# EAGLE library part ESP32-D2WD (library Labops_Lib_AH)
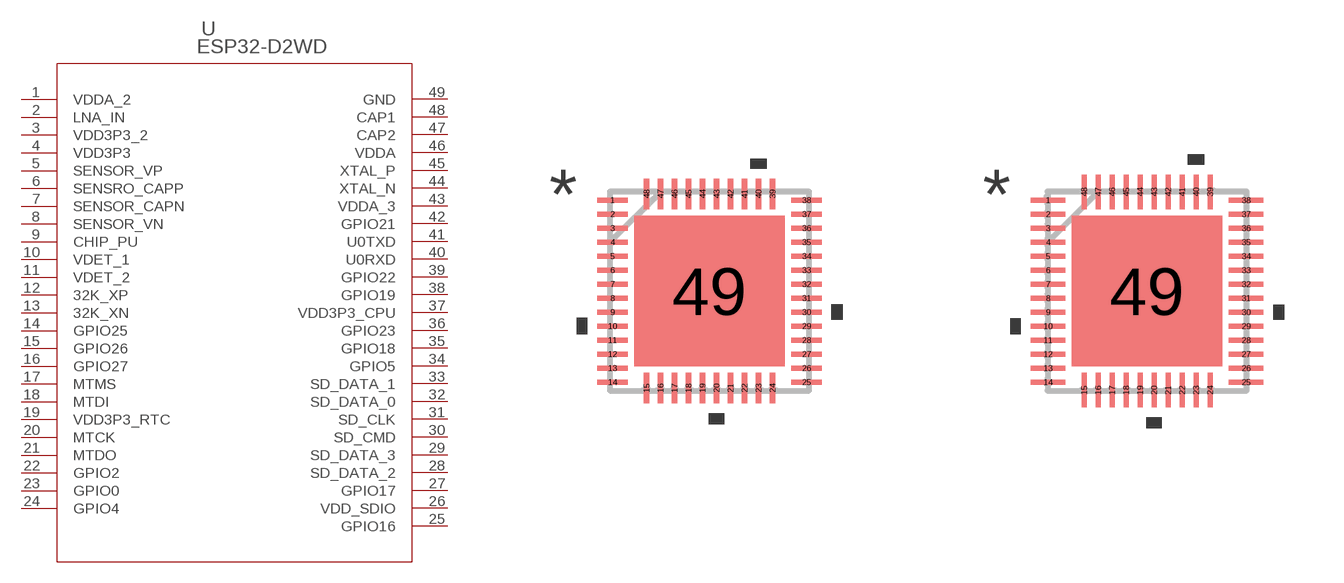
[diagram p47: symbol with the pads of ESP32-D2WD_EXP; footprints ESP32-D2WD_EXP, ESP32-D2WD_EXP-M]

Designator prefix U

## ESP32-D2WD (BUILT_BY: EMA_Colton; COPYRIGHT: Copyright (C) 2018 Accelerated Designs. All rights reserved; DATASHEET: https://datasheet.octopart.com/ESP32-D2WD-Espressif-Systems-datasheet-103126828.pdf; MANUFACTURER_PART_NUMBER: ESP32-D2WD; SOURCELIBRARY: Espressif_Systems_2020-02-05; VENDOR: Espressif Systems)  [ESP32-D2WD_EXP]
1  VDDA_2  pas
2  LNA_IN  pas
3  VDD3P3_2  pas
4  VDD3P3  pas
5  SENSOR_VP  pas
6  SENSRO_CAPP  pas
7  SENSOR_CAPN  pas
8  SENSOR_VN  pas
9  CHIP_PU  pas
10  VDET_1  pas
11  VDET_2  pas
12  32K_XP  pas
13  32K_XN  pas
14  GPIO25  pas
15  GPIO26  pas
16  GPIO27  pas
17  MTMS  pas
18  MTDI  pas
19  VDD3P3_RTC  pas
20  MTCK  pas
21  MTDO  pas
22  GPIO2  pas
23  GPIO0  pas
24  GPIO4  pas
25  GPIO16  pas
26  VDD_SDIO  pas
27  GPIO17  pas
28  SD_DATA_2  pas
29  SD_DATA_3  pas
30  SD_CMD  pas
31  SD_CLK  pas
32  SD_DATA_0  pas
33  SD_DATA_1  pas
34  GPIO5  pas
35  GPIO18  pas
36  GPIO23  pas
37  VDD3P3_CPU  pas
38  GPIO19  pas
39  GPIO22  pas
40  U0RXD  pas
41  U0TXD  pas
42  GPIO21  pas
43  VDDA_3  pas
44  XTAL_N  pas
45  XTAL_P  pas
46  VDDA  pas
47  CAP2  pas
48  CAP1  pas
49  GND  pas

## ESP32-D2WDESP32-D2WD_EXP-M (BUILT_BY: EMA_Colton; COPYRIGHT: Copyright (C) 2018 Accelerated Designs. All rights reserved; DATASHEET: https://datasheet.octopart.com/ESP32-D2WD-Espressif-Systems-datasheet-103126828.pdf; MANUFACTURER_PART_NUMBER: ESP32-D2WD; SOURCELIBRARY: Espressif_Systems_2020-02-05; VENDOR: Espressif Systems)  [ESP32-D2WD_EXP-M]
Pads as for ESP32-D2WD_EXP

## ESP32-D2WDESP32-D2WD_EXP-L (BUILT_BY: EMA_Colton; COPYRIGHT: Copyright (C) 2018 Accelerated Designs. All rights reserved; DATASHEET: https://datasheet.octopart.com/ESP32-D2WD-Espressif-Systems-datasheet-103126828.pdf; MANUFACTURER_PART_NUMBER: ESP32-D2WD; SOURCELIBRARY: Espressif_Systems_2020-02-05; VENDOR: Espressif Systems)  [ESP32-D2WD_EXP-L]
Pads as for ESP32-D2WD_EXP

## Footprint ESP32-D2WD_EXP (pad centres in mm)
smd 0.762 x 0.127: 1 -2.426,2.275; 2 -2.426,1.925; 3 -2.426,1.575; 4 -2.426,1.225; 5 -2.426,0.875; 6 -2.426,0.525; 7 -2.426,0.175; 8 -2.426,-0.175; 9 -2.426,-0.525; 10 -2.426,-0.875; 11 -2.426,-1.225; 12 -2.426,-1.575; 13 -2.426,-1.925; 14 -2.426,-2.275; 25 2.426,-2.275; 26 2.426,-1.925; 27 2.426,-1.575; 28 2.426,-1.225; 29 2.426,-0.875; 30 2.426,-0.525; 31 2.426,-0.175; 32 2.426,0.175; 33 2.426,0.525; 34 2.426,0.875; 35 2.426,1.225; 36 2.426,1.575; 37 2.426,1.925; 38 2.426,2.275
smd 0.127 x 0.762: 15 -1.575,-2.426; 16 -1.225,-2.426; 17 -0.875,-2.426; 18 -0.525,-2.426; 19 -0.175,-2.426; 20 0.175,-2.426; 21 0.525,-2.426; 22 0.875,-2.426; 23 1.225,-2.426; 24 1.575,-2.426; 39 1.575,2.426; 40 1.225,2.426; 41 0.875,2.426; 42 0.525,2.426; 43 0.175,2.426; 44 -0.175,2.426; 45 -0.525,2.426; 46 -0.875,2.426; 47 -1.225,2.426; 48 -1.575,2.426
smd 3.759 x 3.759: 49 0,0

## Footprint ESP32-D2WD_EXP-M (pad centres in mm)
smd 0.864 x 0.127: 1 -2.477,2.275; 2 -2.477,1.925; 3 -2.477,1.575; 4 -2.477,1.225; 5 -2.477,0.875; 6 -2.477,0.525; 7 -2.477,0.175; 8 -2.477,-0.175; 9 -2.477,-0.525; 10 -2.477,-0.875; 11 -2.477,-1.225; 12 -2.477,-1.575; 13 -2.477,-1.925; 14 -2.477,-2.275; 25 2.477,-2.275; 26 2.477,-1.925; 27 2.477,-1.575; 28 2.477,-1.225; 29 2.477,-0.875; 30 2.477,-0.525; 31 2.477,-0.175; 32 2.477,0.175; 33 2.477,0.525; 34 2.477,0.875; 35 2.477,1.225; 36 2.477,1.575; 37 2.477,1.925; 38 2.477,2.275
smd 0.127 x 0.864: 15 -1.575,-2.477; 16 -1.225,-2.477; 17 -0.875,-2.477; 18 -0.525,-2.477; 19 -0.175,-2.477; 20 0.175,-2.477; 21 0.525,-2.477; 22 0.875,-2.477; 23 1.225,-2.477; 24 1.575,-2.477; 39 1.575,2.477; 40 1.225,2.477; 41 0.875,2.477; 42 0.525,2.477; 43 0.175,2.477; 44 -0.175,2.477; 45 -0.525,2.477; 46 -0.875,2.477; 47 -1.225,2.477; 48 -1.575,2.477
smd 3.759 x 3.759: 49 0,0

## Footprint ESP32-D2WD_EXP-L (pad centres in mm)
smd 0.66 x 0.127: 1 -2.375,2.275; 2 -2.375,1.925; 3 -2.375,1.575; 4 -2.375,1.225; 5 -2.375,0.875; 6 -2.375,0.525; 7 -2.375,0.175; 8 -2.375,-0.175; 9 -2.375,-0.525; 10 -2.375,-0.875; 11 -2.375,-1.225; 12 -2.375,-1.575; 13 -2.375,-1.925; 14 -2.375,-2.275; 25 2.375,-2.275; 26 2.375,-1.925; 27 2.375,-1.575; 28 2.375,-1.225; 29 2.375,-0.875; 30 2.375,-0.525; 31 2.375,-0.175; 32 2.375,0.175; 33 2.375,0.525; 34 2.375,0.875; 35 2.375,1.225; 36 2.375,1.575; 37 2.375,1.925; 38 2.375,2.275
smd 0.127 x 0.66: 15 -1.575,-2.375; 16 -1.225,-2.375; 17 -0.875,-2.375; 18 -0.525,-2.375; 19 -0.175,-2.375; 20 0.175,-2.375; 21 0.525,-2.375; 22 0.875,-2.375; 23 1.225,-2.375; 24 1.575,-2.375; 39 1.575,2.375; 40 1.225,2.375; 41 0.875,2.375; 42 0.525,2.375; 43 0.175,2.375; 44 -0.175,2.375; 45 -0.525,2.375; 46 -0.875,2.375; 47 -1.225,2.375; 48 -1.575,2.375
smd 3.759 x 3.759: 49 0,0